# Altium footprint library SSOP-56.PcbLib: 1 footprints
Each footprint in its own frame and in the unit in brackets; x right, y up, seen from the top. Pads: shape width x height; smd on the part's side, far side on the other; paste and mask are expansions set on the pad; w line width, h text height; cw(c..) or ccw(c..) is an arc to the next point about the centre after c.
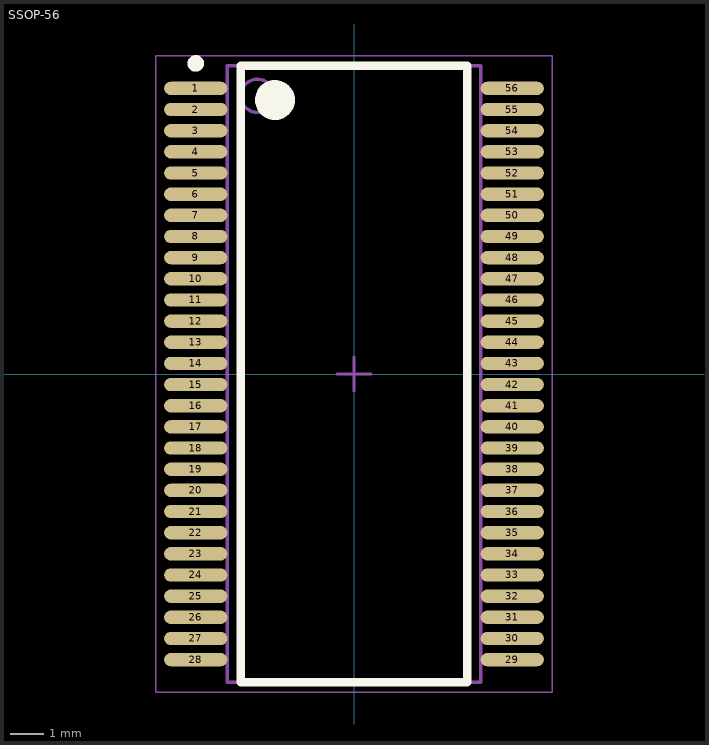
[diagram p0: the footprint, top view; thin cyan lines are the x and y axes]

## SSOP-56 [mm] "SSOP, 56-Leads, Body 18,41x7,49mm, Pitch 0,64mm, IPC Medium Density"
height 2.48
pads (56):
  oval 1.9x0.4 smd: 1(-4.75,8.572) 2(-4.75,7.938) 3(-4.75,7.302) 4(-4.75,6.667) 5(-4.75,6.032) 6(-4.75,5.397) 7(-4.75,4.763) 8(-4.75,4.127) 9(-4.75,3.492) 10(-4.75,2.857) 11(-4.75,2.222) 12(-4.75,1.587) 13(-4.75,0.953) 14(-4.75,0.318) 15(-4.75,-0.318) 16(-4.75,-0.953) 17(-4.75,-1.587) 18(-4.75,-2.222) 19(-4.75,-2.857) 20(-4.75,-3.492) 21(-4.75,-4.127) 22(-4.75,-4.763) 23(-4.75,-5.397) 24(-4.75,-6.032) 25(-4.75,-6.667) 26(-4.75,-7.302) 27(-4.75,-7.938) 28(-4.75,-8.572) 29(4.75,-8.572) 30(4.75,-7.938) 31(4.75,-7.302) 32(4.75,-6.667) 33(4.75,-6.032) 34(4.75,-5.397) 35(4.75,-4.763) 36(4.75,-4.127) 37(4.75,-3.492) 38(4.75,-2.857) 39(4.75,-2.222) 40(4.75,-1.587) 41(4.75,-0.953) 42(4.75,-0.318) 43(4.75,0.318) 44(4.75,0.953) 45(4.75,1.587) 46(4.75,2.222) 47(4.75,2.857) 48(4.75,3.492) 49(4.75,4.127) 50(4.75,4.763) 51(4.75,5.397) 52(4.75,6.032) 53(4.75,6.667) 54(4.75,7.302) 55(4.75,7.938) 56(4.75,8.572)
Top Overlay:
  circle w0.25: c-4.75,9.323 r0.125
  circle w0.6: c-2.373,8.223 r0.3
  lines w0.254: -3.4,-9.25 -3.4,9.25 3.4,9.25 3.4,-9.25 -3.4,-9.25
Mechanical 13:
  circle w0.1: c-2.9,8.35 r0.5
  lines w0.1: -3.8,-9.25 -3.8,9.25 3.8,9.25 3.8,-9.25 -3.8,-9.25
Mechanical 15:
  lines w0.05: -5.95,-9.55 -5.95,9.55 5.95,9.55 5.95,-9.55 -5.95,-9.55
  lines w0.1: -0.5,0 0.5,0 ; 0,-0.5 0,0.5
3D body "SSOP-56.step": height 2.47, standoff 0, extent -5.175,-9.25 5.175,9.25